# Altium integrated library LIB2022 - Devices.IntLib: 1 symbol
Pins are listed as number, name and electrical type; pins without a type are passive.

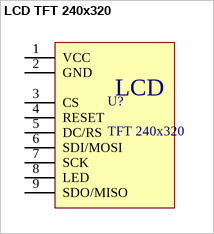
[diagram p0: symbol LCD TFT 240x320]

## LCD TFT 240x320
designator U?, comment TFT 240x320
footprint TFT2.5
pins: 1 VCC, 2 GND, 3 CS, 4 RESET, 5 DC/RS, 6 SDI/MOSI, 7 SCK, 8 LED, 9 SDO/MISO
text: LCD